# EAGLE library part PCF8563TS/4,118 (library RTC)
IC RTC CLK/CALENDAR I2C 8-TSSOP Manufacturer's datasheet <https://www.nxp.com/docs/en/data-sheet/PCF8563.pdf>
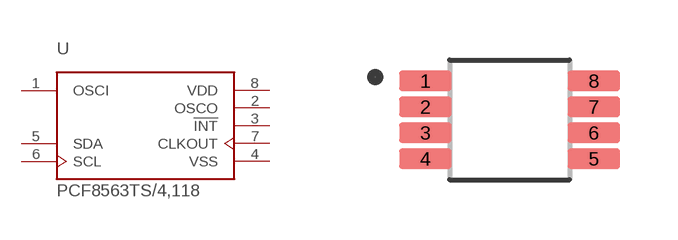
[diagram p10: symbol with the pads of PCF8563TS/4,118; footprint PCF8563TS/4,118]

Designator prefix U

## PCF8563TS/4,118 (CREATED_BY: PCBLayout.com; DIGIKEY_PN: 568-4517-1-ND; MANUFACTURER: NXP USA Inc.; MPN: PCF8563TS/4,118; PACKAGE: 8-TSSOP)  [PCF8563TS/4,118]
1  OSCI  in
2  OSCO  out
3  !INT  out
4  VSS  pwr
5  SDA
6  SCL  in
7  CLKOUT  out
8  VDD  pwr

## Footprint PCF8563TS/4,118 (pad centres in mm)
smd 1.31 x 0.5: 1 -2.105,0.975; 2 -2.105,0.325; 3 -2.105,-0.325; 4 -2.105,-0.975; 5 2.105,-0.975; 6 2.105,-0.325; 7 2.105,0.325; 8 2.105,0.975